# Altium schematic symbol library nxp-i2c.SchLib: 1 symbol
Pins are listed as number, name and electrical type; pins without a type are passive.

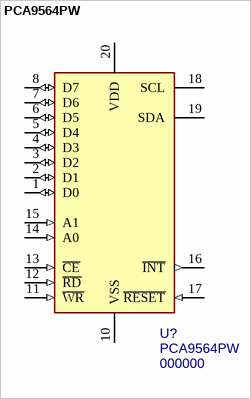
[diagram p0: symbol PCA9564PW]

## PCA9564PW
designator U?, comment 000000  value PCA9564PW
Parallel bus to I2C-bus controller; Package: VSSOP-8; PN: 000000; ExtraInfo: *
footprint TSSOP20 (TSOP, 20-Leads, Body 6.6x4.5mm (max), Pitch 0.65mm, IPC High Density)
pins: 1 D0 (io), 2 D1 (io), 3 D2 (io), 4 D3 (io), 5 D4 (io), 6 D5 (io), 7 D6 (io), 8 D7 (io), 10 VSS (power), 11 ~{WR} (in), 12 ~{RD} (in), 13 ~{CE} (in), 14 A0 (in), 15 A1 (in), 16 ~{INT} (out), 17 ~{RESET} (in), 18 SCL (oc), 19 SDA (oc), 20 VDD (power)
1 alternate drawing of the same symbol